# Altium schematic symbol library CONNECTORS.SchLib: 56 symbols
Pins are listed as number, name and electrical type; pins without a type are passive.

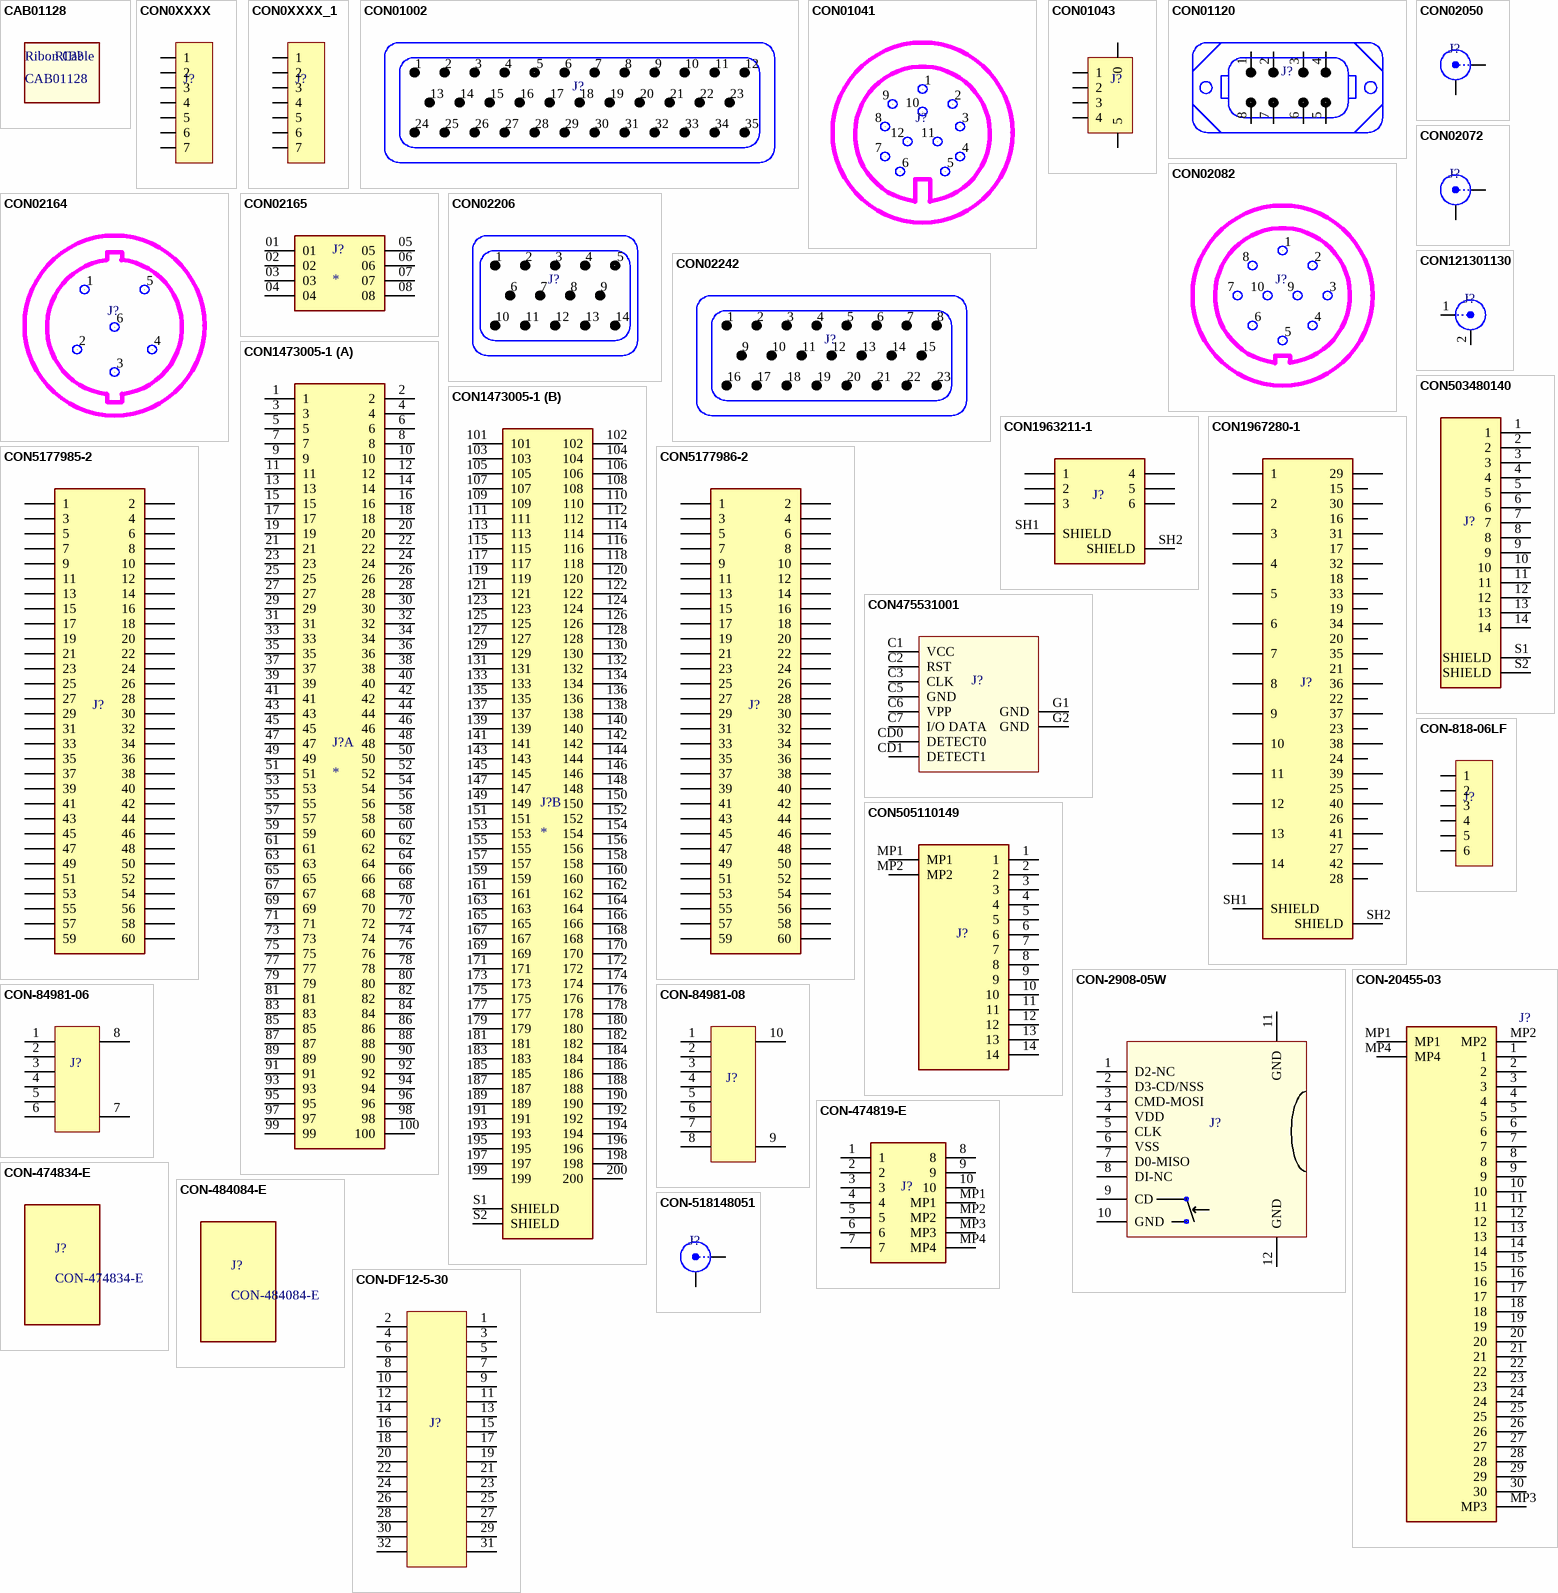
[diagram p0: symbols CAB01128 to CON-DF12-5-30]

## CAB01128
designator RIB?  (value not drawn)  (mechanical)
Flat Ribbon Cable Clear 10 Conductors 0.050" (1.27mm) Flat Cable 5.0' (1.52m); Manufacturer Part Number: 310J101-10; Manufacturer: Cicoil; Working Temperature: -65°C ~ 260°C; Temperature Coefficient: NC; Short Description: CBL RIBN 10COND 0.05 CLEAR 5'; Ratings: UL E324413, CE; Current: 5A; Voltage: ND; Value: 10; Mounting: TH; Power: NC; Type: NC; Frequency: NC; Alternate Part Number 2: *; Tolerance: NC; Revision Date: 03/08/21; Package Reference: NC
text: Ribon Cable

## CON0XXXX
designator J?  (value not drawn)
Alojamientos de cables y cabecera Surface Mount PCB Socket Strips, 0.100 pitch; Manufacturer Part Number: SSM-107-L-SV-BE-K; Manufacturer: SAMTEC; Working Temperature: NC; Short Description: 1 ROW, 7  Position, 0.100 Pitch SOCKET SMT; Value: 6; Temperature Coefficient: NC; Mounting: SMT; Power: NC; Ratings: *; Type: NC; Frequency: NC; Alternate Part Number 1: *; Alternate Part Number 2: *; Tolerance: NC; Current: *; Revision Date: 22/10/21; Package Reference: NC; Voltage: NC
footprint SSM-107-L-SV-BE-K (1 ROW, 7 POSITION, 0.100 PITCH, SOKET SMT)
pins: 1, 2, 3, 4, 5, 6, 7

## CON0XXXX_1
designator J?  (value not drawn)
Alojamientos de cables y cabecera Surface Mount PCB Header , 0.100 pitch; Manufacturer Part Number: TSM-107-03-S-SV; Manufacturer: SAMTEC; Working Temperature: NC; Short Description: 1 ROW, 7  Position, 0.100 Pitch HEADER SMT; Value: 6; Temperature Coefficient: NC; Mounting: SMT; Power: NC; Ratings: *; Type: NC; Frequency: NC; Alternate Part Number 1: *; Alternate Part Number 2: *; Tolerance: NC; Current: *; Revision Date: 22/10/21; Package Reference: NC; Voltage: NC
footprint TSM-107-03-S-SV (1 ROW, 7 POSITION, 0.100 PITCH, PLUG SMT)
pins: 1, 2, 3, 4, 5, 6, 7

## CON01002
designator J?
Connector Header Panel Mount, Through Hole 35 position 0.157" (4.00mm); Manufacturer Part Number: 1-776231-1; Manufacturer: TE Connectivity AMP Connectors; Working Temperature: -40°C ~ 125°C; Temperature Coefficient: NC; Short Description: CONN HEADER VERT 35POS 4MM; Ratings: ROHS3; Value: 35; Mounting: THT; Power: NC; Type: NC; Frequency: NC; Alternate Part Number 1: *; Alternate Part Number 2: *; Tolerance: NC; Current: NC; Revision Date: 20/08/21; Package Reference: NC; Voltage: NC
footprint 1-776231-X (Footprint not found)
pins: 1, 2, 3, 4, 5, 6, 7, 8, 9, 10, 11, 12, 13, 14, 15, 16, 17, 18, 19, 20, 21, 22, 23, 24, 25, 26, 27, 28, 29, 30, 31, 32, 33, 34, 35

## CON01041
designator J?
12 (Power) Position Circular Connector Receptacle, Male Pins Solder; Manufacturer Part Number: PX0413/12P/PC; Manufacturer: Bulgin; Working Temperature: -40°C ~ 80°C; Short Description: CONN RCPT 12POS W/PINS PCB MOUNT; Current: 1A; Temperature Coefficient: *; Mounting: THT; Power: *; Ratings: *; Type: THT; Frequency: *; Alternate Part Number 1: *; Alternate Part Number 2: *; Tolerance: *; Revision Date: 12/11/21; Package Reference: *; Voltage: *; Value: *
footprint PX0413/12P/PC (CONN RCPT 12POS W/PINS PCB MOUNT)
pins: 1, 2, 3, 4, 5, 6, 7, 8, 9, 10, 11, 12

## CON01043
designator J?
USB-A (USB TYPE-A) USB 2.0 Receptacle Connector 4 Position Panel Mount, Through Hole, Right Angle; Manufacturer Part Number: MUSB-A111-30; Manufacturer: Amphenol ICC (Commercial Products); Working Temperature: -40°C ~ 105°C; Short Description: CONN RCPT USB2.0 TYPEA 4P PCB RA; Current: 1.5A; Temperature Coefficient: *; Mounting: THT; Power: *; Ratings: *; Type: USB-A (USB TYPE-A); Frequency: *; Alternate Part Number 1: *; Alternate Part Number 2: *; Tolerance: *; Revision Date: *; Package Reference: *; Voltage: *; Value: *
footprint MUSB-A111-30
pins: 0, 1, 2, 3, 4, 5

## CON01120
designator J?
8 Positions Header Connector Panel Mount, Through Hole, Right Angle Nickel; Manufacturer Part Number: AT13-08PA-BM0; Manufacturer: Amphenol Sine Systems Corp; Working Temperature: -55°C ~ 125°C; Temperature Coefficient: NC; Short Description: CONN HEADER R/A 8POS; Current: 13A; Voltage: 250V; Value: 8; Mounting: Through Hole, Right Angle; Power: *; Ratings: *; Type: Receptacle; Frequency: *; Alternate Part Number 1: *; Alternate Part Number 2: *; Tolerance: NC; Revision Date: 05/09/22; Package Reference: *
footprint AT13-08PA-
footprint AT15-08PA-BM0
pins: 1, 2, 3, 4, 5, 6, 7, 8

## CON02050
designator J?
RP SMA Jack Male Vertical PCB Connector Total Length 22mm Thread Length 17mm; Manufacturer Part Number: S02-SJPT4-11BS00-3; Manufacturer: RF Supplier; Working Temperature: ND; Temperature Coefficient: NC; Frequency: 3 GHz; Value: NC; Mounting: THT; Short Description: ND; Power: ND; Ratings: ND; Type: ND; Alternate Part Number 1: *; Alternate Part Number 2: *; Tolerance: NC; Current: *; Revision Date: 25/11/21; Package Reference: SMA Jack; Voltage: NC
footprint S02-SJPT4-11BS00-3
pins: 1 X, 2 Y

## CON02072
designator J?
MCX Connector Receptacle, Male Pin 50Ohm Through Hole Solder; Manufacturer Part Number: 1061015-1; Manufacturer: TE Connectivity AMP Connectors; Working Temperature: -65°C ~ 165°C; Short Description: CONN MCX RCPT STR 50 OHM PCB; Ratings: REACH, ROHS3; Frequency: 4 GHz; Temperature Coefficient: *; Mounting: THT; Power: *; Type: *; Alternate Part Number 1: *; Alternate Part Number 2: *; Tolerance: *; Current: *; Revision Date: *; Package Reference: *; Voltage: *; Value: *
footprint 1061015-1
pins: 1 X, 2 Y

## CON02082
designator J?
10 (Power) Position Circular Connector Receptacle, Male Pins Solder; Manufacturer Part Number: PX0413/10P/PC; Manufacturer: Bulgin; Working Temperature: -40°C ~ 80°C; Short Description: CONN RCPT MALE 10POS GOLD SOLDER; Ratings: REACH, ROHS3; Current: 1A; Temperature Coefficient: *; Mounting: THT; Power: *; Type: THT; Frequency: *; Alternate Part Number 1: *; Alternate Part Number 2: *; Tolerance: *; Revision Date: 02/12/21; Package Reference: *; Voltage: *; Value: *
footprint PX0413/10P/PC (Footprint not found)
pins: 1, 2, 3, 4, 5, 6, 7, 8, 9, 10

## CON02164
designator J?  (value not drawn)
CONN PANEL LOCK 6PIN M; Manufacturer Part Number: CB-06PMMP-LC7001; Manufacturer: Amphenol LTW; Working Temperature: NA; Current: 10A; Temperature Coefficient: *; Mounting: THT; Short Description: CONN PANEL LOCK 6PIN M; Power: *; Ratings: *; Type: THT; Frequency: *; Alternate Part Number 1: *; Alternate Part Number 2: *; Tolerance: *; Revision Date: 12/11/21; Package Reference: *; Voltage: *; Value: *
footprint CB-06PMMP-LC7001 (CONN PANEL LOCK 6PIN M)
pins: 1, 2, 3, 4, 5, 6

## CON02165
designator J?
Conn Mini-Power Terminal Strip HDR 8 POS 2.54mm Solder SMD 8 Terminal; MP: IPL1-104-02-L-D-K; Price: None; Value: *; Availability: Unavailable; Package: None
footprint SAMTEC_IPL1-104-02-L-D-K (Mini-Power Terminal Strip HDR 8 POS 2.54mm Solder SMD)
pins: 01, 02, 03, 04, 05, 06, 07, 08

## CON02206
designator J?  (value not drawn)
Conectores automotrices 14P RT ANG HDR ASSY W/GASKE; Manufacturer Part Number: 776267-1; Manufacturer: TE Connectivity AMP Connectors; Working Temperature: -40°C ~ 125°C; Temperature Coefficient: NC; Ratings: ROHS3; Value: 14; Mounting: THT; Short Description: 14P RT ANG HDR ASSY W/GASKE; Power: NC; Type: NC; Frequency: NC; Alternate Part Number 1: *; Alternate Part Number 2: *; Tolerance: NC; Current: NC; Revision Date: 20/08/21; Package Reference: NC; Voltage: NC
footprint TE_776267-1_0
pins: 1, 2, 3, 4, 5, 6, 7, 8, 9, 10, 11, 12, 13, 14

## CON02242
designator J?  (value not drawn)
Connector Header Panel Mount, Through Hole, Right Angle 23 position 0.157" (4.00mm) Black (COD1); Manufacturer Part Number: 1-776087-1; Manufacturer: TE Connectivity Deutsch Connectors; Working Temperature: -40°C ~ 125°C; Temperature Coefficient: NC; Short Description: CONN HEADER R/A 23POS 4MM; Ratings: ROHS3, ELV; Current: 17 A; Voltage: 250VAC; Value: 23; Mounting: THT; Power: NC; Type: Black (COD 1); Frequency: NC; Alternate Part Number 1: *; Alternate Part Number 2: *; Tolerance: NC; Revision Date: 26/06/23; Package Reference: NC; ComponentLink1Description: Datasheet; ComponentLink1URL: https://www.te.com/usa-en/product-1-776087-1.datasheet.pdf; ComponentLink2Description: Product page; ComponentLink2URL: https://www.te.com/usa-en/product-1-776087-1.html; ComponentLink3Description: Drawing; ComponentLink3URL: https://www.te.com/commerce/DocumentDelivery/DDEController?Action=showdoc&DocId=Customer+Drawing%7F776087%7FF%7Fpdf%7FEnglish%7FENG_CD_776087_F.pdf%7F1-776087-1
footprint TE_1-776087-1
pins: 1, 2, 3, 4, 5, 6, 7, 8, 9, 10, 11, 12, 13, 14, 15, 16, 17, 18, 19, 20, 21, 22, 23

## CON1473005-1
designator J?
200 Position Dual Row Right Angle Double Data Rate SO DIMM Memory Card Socket; Manufacturer Part Number: 1473005-1; Manufacturer: TE Connectivity; Value: *; Datasheet: https://www.te.com/usa-en/product-1473005-1.html; Price: None; Package: None
footprint TE_1473005-1
footprint TE_1473005-1 + SOM Toradex iMX
part A pins: 1, 2, 3, 4, 5, 6, 7, 8, 9, 10, 11, 12, 13, 14, 15, 16, 17, 18, 19, 20, 21, 22, 23, 24, 25, 26, 27, 28, 29, 30, 31, 32, 33, 34, 35, 36, 37, 38, 39, 40, 41, 42, 43, 44, 45, 46, 47, 48, 49, 50, 51, 52, 53, 54, 55, 56, 57, 58, 59, 60, 61, 62, 63, 64, 65, 66, 67, 68, 69, 70, 71, 72, 73, 74, 75, 76, 77, 78, 79, 80, 81, 82, 83, 84, 85, 86, 87, 88, 89, 90, 91, 92, 93, 94, 95, 96, 97, 98, 99, 100
part B pins: 101, 102, 103, 104, 105, 106, 107, 108, 109, 110, 111, 112, 113, 114, 115, 116, 117, 118, 119, 120, 121, 122, 123, 124, 125, 126, 127, 128, 129, 130, 131, 132, 133, 134, 135, 136, 137, 138, 139, 140, 141, 142, 143, 144, 145, 146, 147, 148, 149, 150, 151, 152, 153, 154, 155, 156, 157, 158, 159, 160, 161, 162, 163, 164, 165, 166, 167, 168, 169, 170, 171, 172, 173, 174, 175, 176, 177, 178, 179, 180, 181, 182, 183, 184, 185, 186, 187, 188, 189, 190, 191, 192, 193, 194, 195, 196, 197, 198, 199, 200, S1 SHIELD, S2 SHIELD

## CON1963211-1
designator J?
Connector Header Through Hole, Right Angle 6 position 0.197" (5.00mm); Manufacturer Part Number: 1-963211-1; Manufacturer: TE Connectivity AMP Connectors; Short Description: CONN HEADER R/A 6POS 5MM; Ratings: RoHS 2011/65/EU; Value: 6; Working Temperature: *; Temperature Coefficient: *; Mounting: Through hole; Power: *; Type: *; Frequency: *; Alternate Part Number 1: *; Alternate Part Number 2: *; Tolerance: *; Current: *; Revision Date: 28/03/23; Package Reference: *; Voltage: *
footprint TE_1-963211-1 (Connector Header Through Hole, Right Angle 6 position 0.197" (5.00mm))
pins: 1, 2, 3, 4, 5, 6, SH1 SHIELD, SH2 SHIELD

## CON1967280-1
designator J?
Connector Header Through Hole, Right Angle 42 position 0.197" (5.00mm); Manufacturer Part Number: 1-967280-1; Manufacturer: TE Connectivity AMP Connectors; Short Description: CONN HEADER R/A 42POS 5MM; Ratings: RoHS 2011/65/EU; Value: 42; Working Temperature: *; Temperature Coefficient: *; Mounting: Through hole; Power: *; Type: *; Frequency: *; Alternate Part Number 1: *; Alternate Part Number 2: *; Tolerance: *; Current: *; Revision Date: 28/03/23; Package Reference: *; Voltage: *
footprint TE_1-967280-1
pins: 1, 2, 3, 4, 5, 6, 7, 8, 9, 10, 11, 12, 13, 14, 15, 16, 17, 18, 19, 20, 21, 22, 23, 24, 25, 26, 27, 28, 29, 30, 31, 32, 33, 34, 35, 36, 37, 38, 39, 40, 41, 42, SH1 SHIELD, SH2 SHIELD

## CON5177985-2
designator J?
60 Position Connector Receptacle, SMD, pitch 0.8mm; Manufacturer Part Number: 5177985-2; Manufacturer: TE Connectivity AMP Connectors; Short Description: Board to Board & Mezzanine Connectors 0.8MM-05H REC 2X030P; Ratings: RoHS; Value: 60; Working Temperature: *; Temperature Coefficient: *; Mounting: Surface Mount; Power: *; Type: *; Frequency: *; Alternate Part Number 1: *; Alternate Part Number 2: *; Tolerance: *; Current: *; Revision Date: 02/06/23; Package Reference: Tape & Reel (TR); Voltage: *
footprint TE_5177985-2
pins: 1, 2, 3, 4, 5, 6, 7, 8, 9, 10, 11, 12, 13, 14, 15, 16, 17, 18, 19, 20, 21, 22, 23, 24, 25, 26, 27, 28, 29, 30, 31, 32, 33, 34, 35, 36, 37, 38, 39, 40, 41, 42, 43, 44, 45, 46, 47, 48, 49, 50, 51, 52, 53, 54, 55, 56, 57, 58, 59, 60

## CON5177986-2
designator J?
60 Position Connector Plug, SMD, pitch 0.8mm; Manufacturer Part Number: 5177986-2; Manufacturer: TE Connectivity AMP Connectors; Short Description: Board to Board & Mezzanine Connectors 0.8MM-05H PLG 2X030P; Ratings: RoHS; Value: 60; Working Temperature: *; Temperature Coefficient: *; Mounting: Surface Mount; Power: *; Type: *; Frequency: *; Alternate Part Number 1: *; Alternate Part Number 2: *; Tolerance: *; Current: *; Revision Date: 02/06/23; Package Reference: Tape & Reel (TR); Voltage: *
footprint TE_5177986-2
pins: 1, 2, 3, 4, 5, 6, 7, 8, 9, 10, 11, 12, 13, 14, 15, 16, 17, 18, 19, 20, 21, 22, 23, 24, 25, 26, 27, 28, 29, 30, 31, 32, 33, 34, 35, 36, 37, 38, 39, 40, 41, 42, 43, 44, 45, 46, 47, 48, 49, 50, 51, 52, 53, 54, 55, 56, 57, 58, 59, 60

## CON121301130
designator J?
Fakra straight plug pcb 50 ohm; Manufacturer Part Number: 1213011300; Manufacturer: Synconn; Working Temperature: -40°C ~ 105°C; Temperature Coefficient: NC; Ratings: ROHS; Frequency: 6GHz; Value: NC; Mounting: SMT; Short Description: Fakra straight plug pcb 50 ohm; Power: NC; Type: Male; Alternate Part Number 2: *; Tolerance: NC; Current: NC; Revision Date: 13/04/23; Package Reference: NC; Voltage: NC
footprint 1213011300
pins: 1 PIN, 2 GND

## CON475531001
designator J?
8 (6 + 2) Position Card Connector SIM Card Surface Mount, Right Angle Gold; Manufacturer Part Number: 0475531001; Manufacturer: Molex; Working Temperature: NC; Short Description: CONN SIM CARD PUSH-PUSH R/A SMD; Ratings: REACH, ROHS3; Value: 8; Temperature Coefficient: NC; Mounting: SMT; Power: NC; Type: NC; Frequency: NC; Alternate Part Number 2: *; Tolerance: NC; Current: NC; Revision Date: 03/08/21; Package Reference: NC; Voltage: NC
footprint 0475531001
pins: C1 VCC, C2 RST, C3 CLK, C5 GND, C6 VPP, C7 I/O DATA, CD0 DETECT0, CD1 DETECT1, G1 GND, G2 GND

## CON503480140
designator J?
14 Position FFC, FPC Connector Contacts, Top and Bottom 0.020" (0.50mm) Surface Mount, Right Angle; Manufacturer Part Number: 5034801400; Manufacturer: Molex; Working Temperature: -40°C ~ 85°C; Short Description: CONN FFC FPC 14POS 0.50MM R/A; Current: 0.5A; Voltage: 50V; Value: 14; Temperature Coefficient: *; Mounting: SMD; Power: *; Ratings: *; Type: *; Frequency: *; Alternate Part Number 1: *; Alternate Part Number 2: *; Tolerance: *; Revision Date: 08/04/22; Package Reference: *; ComponentLink1Description: Datasheet; ComponentLink1URL: https://www.molex.com/pdm_docs/sd/5034801400_sd.pdf
footprint 5034801400
pins: 1, 2, 3, 4, 5, 6, 7, 8, 9, 10, 11, 12, 13, 14, S1 SHIELD (power), S2 SHIELD (power)

## CON505110149
designator J?
14 Position FFC, FPC Connector Contacts, Bottom 0.020" (0.50mm) Surface Mount, Right Angle; Manufacturer Part Number: 5051101492; Manufacturer: Molex; Working Temperature: -40°C ~ 105°C; Short Description: CONN FPC BOTTOM 14POS .5MM R/A; Current: 500mA; Voltage: 50V; Value: 14; Mounting: SMD; Power: *; Ratings: *; Type: *; Frequency: *; Alternate Part Number 1: *; Alternate Part Number 2: *; Tolerance: *; Revision Date: 20/09/21; Package Reference: *
footprint 5051101492 (Footprint not found)
pins: 1, 2, 3, 4, 5, 6, 7, 8, 9, 10, 11, 12, 13, 14, MP1, MP2

## CON-818-06LF
designator J?
Connector Header Through Hole 6 position 0.100" (2.54mm); Manufacturer Part Number: 77311-818-06LF; Manufacturer: Amphenol ICC (FCI); Working Temperature: NC; Short Description: CONN HEADER VERT 6POS 2.54MM; Ratings: REACH, ROHS; Current: 3A; Value: 6; Temperature Coefficient: NC; Mounting: THT; Power: NC; Type: NC; Frequency: NC; Alternate Part Number 1: *; Alternate Part Number 2: *; Tolerance: NC; Revision Date: 08/09/21; Package Reference: NC; Voltage: NC
footprint 77311-818-06LF
pins: 1, 2, 3, 4, 5, 6

## CON-2908-05W
designator J?
8 Position Card Connector Secure Digital - microSD™ Surface Mount, Right Angle Gold; Manufacturer Part Number: 2908-05WB-MG; Manufacturer: 3M; Working Temperature: NC; Short Description: CONN MICRO SD CARD PUSH-PUSH R/A; Ratings: ROHS; Value: 8; Temperature Coefficient: NC; Mounting: SMT; Power: NC; Type: NC; Frequency: NC; Alternate Part Number 2: *; Tolerance: NC; Current: NC; Revision Date: 03/08/21; Package Reference: NC; Voltage: NC
footprint 2908-05WB-MG
pins: 1 D2-NC, 2 D3-CD/NSS, 3 CMD-MOSI, 4 VDD, 5 CLK, 6 VSS, 7 D0-MISO, 8 DI-NC, 9 CD, 10 GND, 11 GND, 12 GND

## CON-20455-03
designator J?
CABLINE-VS Series Receptacle Assembly; Manufacturer Part Number: 20455-030E-76; Manufacturer: I-PEX; Current: 100mA; Voltage: 100V AC; Value: 30; Working Temperature: *; Temperature Coefficient: *; Mounting: SMD; Short Description: *; Power: *; Ratings: *; Type: *; Frequency: *; Alternate Part Number 1: *; Alternate Part Number 2: *; Tolerance: *; Revision Date: *; Package Reference: *
footprint 20455030E76
pins: 1, 2, 3, 4, 5, 6, 7, 8, 9, 10, 11, 12, 13, 14, 15, 16, 17, 18, 19, 20, 21, 22, 23, 24, 25, 26, 27, 28, 29, 30, MP1, MP2, MP3, MP4

## CON-84981-06
designator J?
6 Position FFC, FPC Connector Contacts, Top 0.039" (1.00mm) Surface Mount, Right Angle; Manufacturer Part Number: 84981-6; Manufacturer: TE Connectivity AMP Connectors; Working Temperature: -20°C ~ 85°C; Temperature Coefficient: NC; Short Description: CONN FFC FPC TOP 6POS 1.00MM R/A; Ratings: ROHS; Current: 1A; Voltage: 125V; Value: 6; Mounting: SMT; Power: NC; Type: NC; Frequency: NC; Alternate Part Number 2: *; Tolerance: NC; Revision Date: 03/08/21; Package Reference: NC
footprint 84981-6
pins: 1, 2, 3, 4, 5, 6, 7, 8

## CON-84981-08
designator J?
8 Position FFC, FPC Connector Contacts, Top 0.039" (1.00mm) Surface Mount, Right Angle; Manufacturer Part Number: 84981-8; Manufacturer: TE Connectivity AMP Connectors; Working Temperature: -20°C ~ 85°C; Temperature Coefficient: NC; Short Description: CONN FFC FPC TOP 8POS 1.00MM R/A; Ratings: ROHS; Current: 1A; Voltage: 125V; Value: 8; Mounting: SMT; Power: NC; Type: NC; Frequency: NC; Alternate Part Number 2: *; Tolerance: NC; Revision Date: 03/08/21; Package Reference: NC
footprint 84981-8
pins: 1, 2, 3, 4, 5, 6, 7, 8, 9, 10

## CON-474819-E
designator J?
Connector Header Surface Mount 10 position 0.050" (1.27mm); Manufacturer Part Number: 474819-E; Manufacturer: TE Connectivity Erni; Working Temperature: -55°C ~ 150°C; Temperature Coefficient: NC; Short Description: MIBR M 10POS VERT P SMT KS; Ratings: REACH, ROHS3; Current: 5.4A per Contact; Voltage: ND; Value: 10; Mounting: SMT; Power: NC; Type: NC; Frequency: NC; Alternate Part Number 2: *; Tolerance: NC; Revision Date: 03/08/21; Package Reference: NC
footprint CON-474819-E (MIBR M 10POS VERT P SMT KS)
pins: 1, 2, 3, 4, 5, 6, 7, 8, 9, 10, MP1, MP2, MP3, MP4

## CON-474834-E
designator J?  (mechanical)
10 Position Rectangular Receptacle Connector IDC 22 AWG; Manufacturer: TE Connectivity Erni; Working Temperature: -55°C ~ 150°C; Temperature Coefficient: NC; Short Description: MIBR F 10POS RA P IDC22 POZ KS; Ratings: REACH, ROHS3; Current: 5.4A per Contact; Voltage: ND; Value: 10; Manufacturer Part Number: 474834-E; Mounting: TH; Power: NC; Type: NC; Frequency: NC; Alternate Part Number 2: *; Tolerance: NC; Revision Date: 03/08/21; Package Reference: NC

## CON-484084-E
designator J?  (mechanical)
10 Position Rectangular Receptacle Connector IDC 22 AWG; Manufacturer: TE Connectivity Erni; Working Temperature: -55°C ~ 150°C; Temperature Coefficient: NC; Short Description: MIBR F 10POS VERT A IDC22 POZ KS; Ratings: REACH, ROHS3; Current: 5.4A per Contact; Voltage: ND; Value: 10; Manufacturer Part Number: 484084-E; Mounting: TH; Power: NC; Type: NC; Frequency: NC; Alternate Part Number 2: *; Tolerance: NC; Revision Date: 03/08/21; Package Reference: NC

## CON-518148051
designator J?
TNC Connector Jack, Female Socket 50Ohm Through Hole Solder; Manufacturer Part Number: 5-1814805-1; Manufacturer: TE Connectivity AMP Connectors; Working Temperature: -55°C ~ 85°C; Short Description: CONN TNC JACK STR 50 OHM PCB; Ratings: REACH, ROHS3; Frequency: 4 GHz; Temperature Coefficient: *; Mounting: THT; Power: *; Type: *; Alternate Part Number 1: *; Alternate Part Number 2: *; Tolerance: *; Current: *; Revision Date: *; Package Reference: *; Voltage: *; Value: *
footprint 5-1814805-1
pins: 1 X, 2 Y

## CON-DF12-5-30
designator J?
30 Position Connector Header, Outer Shroud Contacts Surface Mount Gold; Manufacturer Part Number: DF12NB(5.0)-30DP-0.5V(51); Manufacturer: Hirose Electric Co Ltd; Short Description: CONN HDR 30POS SMD GOLD; Ratings: RoHS; Value: 30; Working Temperature: *; Temperature Coefficient: *; Mounting: SMD; Power: *; Type: *; Frequency: *; Alternate Part Number 1: *; Alternate Part Number 2: *; Tolerance: *; Current: *; Revision Date: 4/4/23; Package Reference: *; Voltage: *
footprint DF12NB(5.0)-30
pins: 1, 2, 3, 4, 5, 6, 7, 8, 9, 10, 11, 12, 13, 14, 15, 16, 17, 18, 19, 20, 21, 22, 23, 24, 25, 26, 27, 28, 29, 30, 31, 32

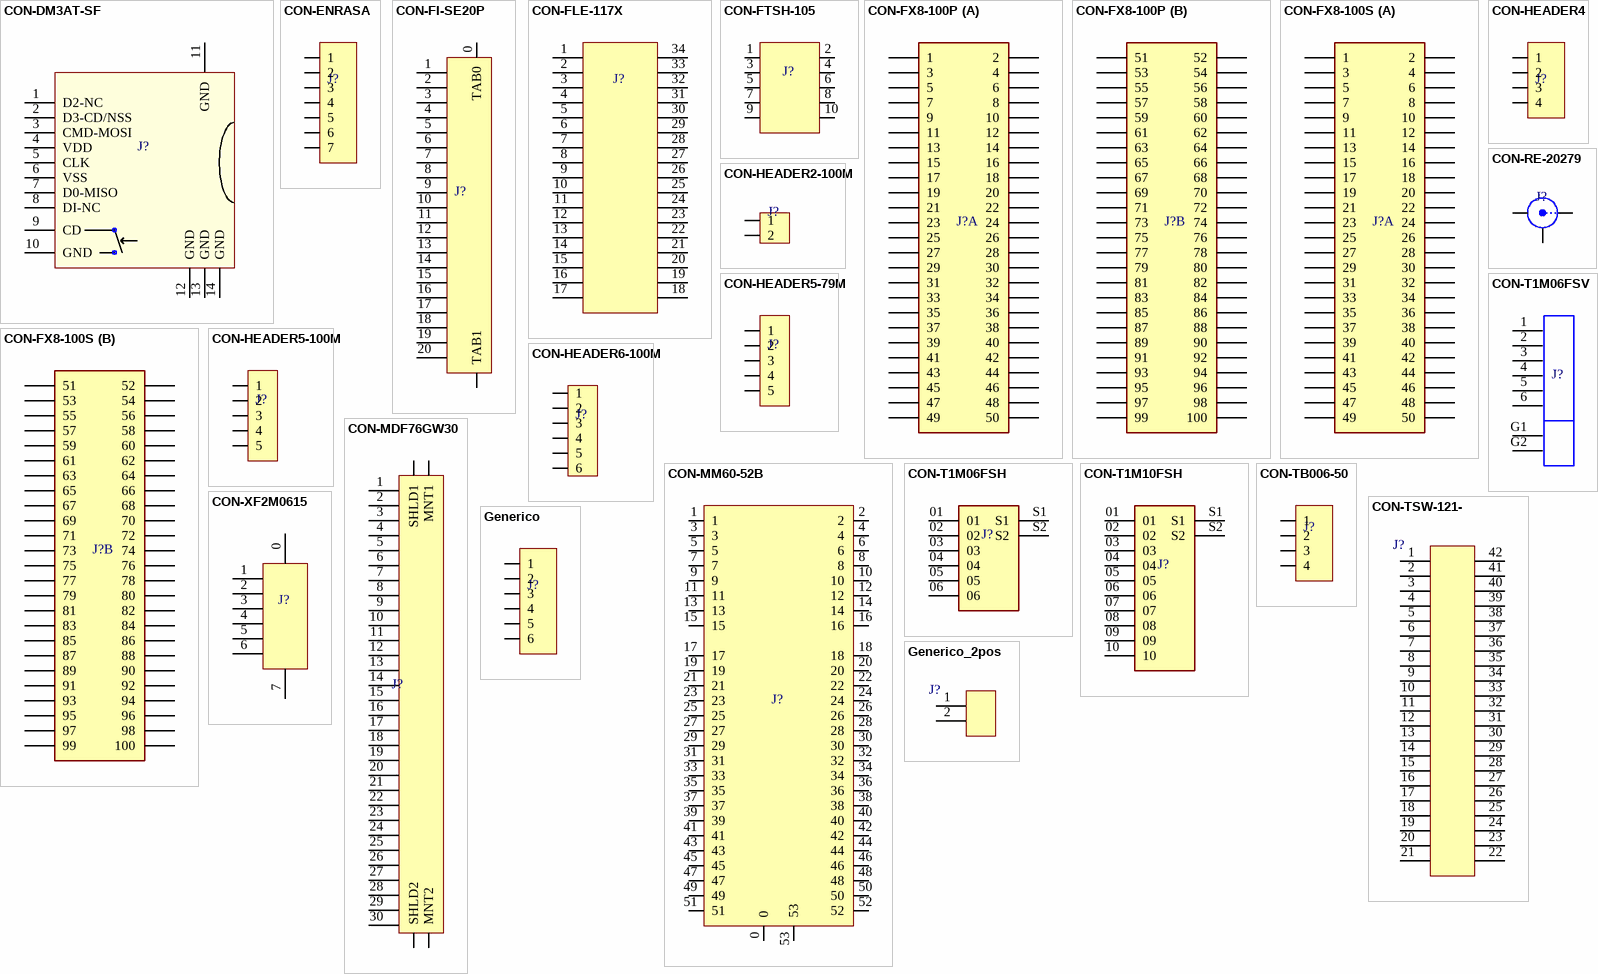
[diagram p1: symbols CON-DM3AT-SF to Generico_2pos]

## CON-DM3AT-SF
designator J?
10 (8 + 2) Position Card Connector Secure Digital - microSD™ Surface Mount, Right Angle Gold; Manufacturer Part Number: DM3AT-SF-PEJM5; Manufacturer: Hirose Electric Co Ltd; Working Temperature: NC; Short Description: CONN MICRO SD CARD PUSH-PUSH R/A; Ratings: ROHS; Value: 10; Temperature Coefficient: NC; Mounting: SMT; Power: NC; Type: NC; Frequency: NC; Alternate Part Number 2: *; Tolerance: NC; Current: NC; Revision Date: 03/08/21; Package Reference: NC; Voltage: NC; ComponentLink1Description: Datasheet; ComponentLink1URL: https://www.hirose.com/product/document?clcode=CL0609-0033-6-00&productname=DM3AT-SF-PEJ2M5&series=DM3&documenttype=Catalog&lang=en&documentid=D49662_en; ComponentLink2Description: Specs; ComponentLink2URL: https://www.hirose.com/product/download/?distributor=digikey&type=specSheet&lang=en&num=DM3AT-SF-PEJM5; ComponentLink3Description: Drawing; ComponentLink3URL: https://www.hirose.com/product/download/?distributor=digikey&type=2d&lang=en&num=DM3AT-SF-PEJM5
footprint DM3AT-SF-PEJM5
pins: 1 D2-NC, 2 D3-CD/NSS, 3 CMD-MOSI, 4 VDD, 5 CLK, 6 VSS, 7 D0-MISO, 8 DI-NC, 9 CD, 10 GND, 11 GND, 12 GND, 13 GND, 14 GND

## CON-ENRASA
designator J?
Connector 6 position for Enrasador; Working Temperature: NC; Value: 6; Manufacturer Part Number: *; Temperature Coefficient: NC; Mounting: THT; Short Description: *; Power: NC; Ratings: *; Type: NC; Frequency: NC; Alternate Part Number 1: *; Alternate Part Number 2: *; Manufacturer: *; Tolerance: NC; Current: *; Revision Date: 22/10/21; Package Reference: NC; Voltage: NC
footprint CON-ENRAS
pins: 1, 2, 3, 4, 5, 6, 7

## CON-FI-SE20P
designator J?
Connector Header Surface Mount, Right Angle 20 position 0.049" (1.25mm); Manufacturer Part Number: FI-SE20P-HFE; Working Temperature: -40°C ~ 80°C; Temperature Coefficient: NC; Short Description: CONN HEADER SMD R/A 20POS 1.25MM; Ratings: ROHS; Current: 1A; Voltage: 200V; Value: 20; Mounting: SMT; Power: NC; Type: NC; Frequency: NC; Alternate Part Number 2: *; Manufacturer: FI-SE20P-HFE; Tolerance: NC; Revision Date: 03/08/21; Package Reference: NC; ComponentLink1Description: Datasheet; ComponentLink1URL: https://media.digikey.com/pdf/Data%20Sheets/JAE%20PDFs/Board-to-CableConn_PG_V2.2.pdf; ComponentLink2Description: Dawings; ComponentLink2URL: https://www.jae.com/direct/topics/topics_file_download/topics_id=65161&ext_no=06&index=0&_lang=en&v=; ComponentLink3Description: Specs; ComponentLink3URL: https://www.jae.com/direct/topics/topics_file_download/topics_id=65161&ext_no=07&_lang=en&v=
footprint FI-SE20P-HFE
pins: 0 TAB0, 1, 2, 3, 4, 5, 6, 7, 8, 9, 10, 11, 12, 13, 14, 15, 16, 17, 18, 19, 20, 21 TAB1

## CON-FLE-117X
designator J?
34 Position Receptacle Connector 0.050" (1.27mm) Surface Mount Gold; Manufacturer Part Number: FLE-117-01-G-DV-A-K; Manufacturer: Samtec Inc.; Working Temperature: -55°C ~ 125°C; Temperature Coefficient: NC; Short Description: CONN RCPT 34POS 0.05 GOLD SMD; Ratings: ROHS3; Current: 2A; Voltage: ND; Value: 34; Mounting: SMT; Power: NC; Type: NC; Frequency: NC; Alternate Part Number 2: *; Tolerance: NC; Revision Date: 03/08/21; Package Reference: NC
footprint FLE-117-01-G-DV-A-K
pins: 1, 2, 3, 4, 5, 6, 7, 8, 9, 10, 11, 12, 13, 14, 15, 16, 17, 18, 19, 20, 21, 22, 23, 24, 25, 26, 27, 28, 29, 30, 31, 32, 33, 34

## CON-FTSH-105
designator J?
Connector Header Surface Mount 10 position 0.050" (1.27mm); Manufacturer Part Number: FTSH-105-01-L-DV-K-P; Manufacturer: Samtec Inc.; Working Temperature: -55°C ~ 125°C; Temperature Coefficient: NC; Short Description: CONN HEADER SMD 10POS 1.27MM; Ratings: REACH, ROHS3; Current: 3.4A; Voltage: ND; Value: 10; Mounting: SMT; Power: NC; Type: NC; Frequency: NC; Alternate Part Number 2: *; Tolerance: NC; Revision Date: 03/08/21; Package Reference: NC
footprint FTSH-105-01-L-DV-K-P
pins: 1, 2, 3, 4, 5, 6, 7, 8, 9, 10

## CON-FX8-100P
designator J?
100 Position Connector Header, Outer Shroud Contacts Surface Mount Gold; Manufacturer Part Number: FX8-100P-SV1; Manufacturer: Hirose Electric Co Ltd; Short Description: CONN HDR 100POS SMD GOLD; Ratings: RoHS; Value: 100; Working Temperature: *; Temperature Coefficient: *; Mounting: Surface Mount; Power: *; Type: *; Frequency: *; Alternate Part Number 1: *; Alternate Part Number 2: *; Tolerance: *; Current: *; Revision Date: 29/03/23; Package Reference: *; Voltage: *
footprint HRS_FX8-100P-SV1 (100 Position Connector Header, Outer Shroud Contacts Surface Mount Gold)
part A pins: 1, 2, 3, 4, 5, 6, 7, 8, 9, 10, 11, 12, 13, 14, 15, 16, 17, 18, 19, 20, 21, 22, 23, 24, 25, 26, 27, 28, 29, 30, 31, 32, 33, 34, 35, 36, 37, 38, 39, 40, 41, 42, 43, 44, 45, 46, 47, 48, 49, 50
part B pins: 51, 52, 53, 54, 55, 56, 57, 58, 59, 60, 61, 62, 63, 64, 65, 66, 67, 68, 69, 70, 71, 72, 73, 74, 75, 76, 77, 78, 79, 80, 81, 82, 83, 84, 85, 86, 87, 88, 89, 90, 91, 92, 93, 94, 95, 96, 97, 98, 99, 100

## CON-FX8-100S
designator J?
100 Position Connector Receptacle, Center Strip Contacts Surface Mount Gold; Manufacturer Part Number: FX8-100S-SV; Manufacturer: Hirose Electric Co Ltd; Short Description: CONN RCPT 100POS SMD GOLD; Ratings: RoHS; Value: 100; Working Temperature: *; Temperature Coefficient: *; Mounting: Surface Mount; Power: *; Type: *; Frequency: *; Alternate Part Number 1: *; Alternate Part Number 2: *; Tolerance: *; Current: *; Revision Date: 29/03/23; Package Reference: *; Voltage: *
footprint HRS_FX8-100S-SV (100 Position Connector Receptacle, Center Strip Contacts Surface Mount Gold)
part A pins: 1, 2, 3, 4, 5, 6, 7, 8, 9, 10, 11, 12, 13, 14, 15, 16, 17, 18, 19, 20, 21, 22, 23, 24, 25, 26, 27, 28, 29, 30, 31, 32, 33, 34, 35, 36, 37, 38, 39, 40, 41, 42, 43, 44, 45, 46, 47, 48, 49, 50
part B pins: 51, 52, 53, 54, 55, 56, 57, 58, 59, 60, 61, 62, 63, 64, 65, 66, 67, 68, 69, 70, 71, 72, 73, 74, 75, 76, 77, 78, 79, 80, 81, 82, 83, 84, 85, 86, 87, 88, 89, 90, 91, 92, 93, 94, 95, 96, 97, 98, 99, 100

## CON-HEADER2-100M
designator J?  (no BOM)
Connector Header Through Hole Vertical 2 Position 0.100" (2.54mm); Manufacturer Part Number: 61300211121; Manufacturer: Würth Elektronik; Short Description: CONN HEADER VERT 2POS 2.54MM; Working Temperature: *; Temperature Coefficient: *; Mounting: THT; Power: *; Ratings: *; Type: *; Frequency: *; Alternate Part Number 1: *; Alternate Part Number 2: *; Tolerance: *; Current: *; Revision Date: 29/06/23; Package Reference: *; Voltage: *; Value: *
footprint HEADER2-100
pins: 1, 2

## CON-HEADER4
designator J?
Header, 4-Pin; Short Description: Connector Header 4 pin; Value: 4; Manufacturer Part Number: *; Working Temperature: *; Temperature Coefficient: *; Mounting: THT; Power: *; Ratings: *; Type: *; Frequency: *; Alternate Part Number 1: *; Alternate Part Number 2: *; Manufacturer: *; Tolerance: *; Current: *; Revision Date: 13/10/21; Package Reference: *; Voltage: *
footprint HEADER4 (Footprint not found)
pins: 1, 2, 3, 4

## CON-HEADER5-79M
designator J?  (no BOM)
Header, 5-Pin (2mm / 79MIL); Short Description: Connector Header 5 pin 2mm; Manufacturer Part Number: *; Working Temperature: *; Temperature Coefficient: *; Mounting: THT; Power: *; Ratings: *; Type: *; Frequency: *; Alternate Part Number 1: *; Alternate Part Number 2: *; Manufacturer: *; Tolerance: *; Current: *; Revision Date: 16/11/21; Package Reference: *; Voltage: *; Value: *
pins: 1, 2, 3, 4, 5

## CON-HEADER5-100M
designator J?  (no BOM)
Header, 5-Pin (2.54mm / 100MIL); Short Description: Connector Header 5 pin 2.54mm; Manufacturer Part Number: *; Working Temperature: *; Temperature Coefficient: *; Mounting: THT; Power: *; Ratings: *; Type: *; Frequency: *; Alternate Part Number 1: *; Alternate Part Number 2: *; Manufacturer: *; Tolerance: *; Current: *; Revision Date: 16/11/21; Package Reference: *; Voltage: *; Value: *
pins: 1, 2, 3, 4, 5

## CON-HEADER6-100M
designator J?  (no BOM)
Header, 6-Pin (2.54mm / 100MIL); Short Description: Connector Header 5 pin 2.54mm; Manufacturer Part Number: *; Working Temperature: *; Temperature Coefficient: *; Mounting: THT; Power: *; Ratings: *; Type: *; Frequency: *; Alternate Part Number 1: *; Alternate Part Number 2: *; Manufacturer: *; Tolerance: *; Current: *; Revision Date: 16/11/21; Package Reference: *; Voltage: *; Value: *
pins: 1, 2, 3, 4, 5, 6

## CON-MDF76GW30
designator J?
30 Position Receptacle Connector 0.039" (1.00mm) Surface Mount, Right Angle Gold; Manufacturer Part Number: MDF76GW-30S-1H(55); Manufacturer: Hirose Electric Co Ltd; Working Temperature: -40°C ~ 85°C; Temperature Coefficient: NC; Short Description: CONN RCPT 30P 0.039 GOLD SMD R/A; Ratings: ROHS; Value: 30; Mounting: SMT; Power: NC; Type: NC; Frequency: NC; Alternate Part Number 1: NC; Alternate Part Number 2: NC; Tolerance: NC; Current: NC; Revision Date: 19/11/21; Package Reference: NC; Voltage: NC
footprint MDF76GW-30S-1H(55)
pins: 1, 2, 3, 4, 5, 6, 7, 8, 9, 10, 11, 12, 13, 14, 15, 16, 17, 18, 19, 20, 21, 22, 23, 24, 25, 26, 27, 28, 29, 30, 31 MNT1, 31 MNT2, 31 SHLD1, 31 SHLD2

## CON-MM60-52B
designator J?
52 Position Female Connector PCI Express Mini Card Gold 0.031" (0.80mm) -; Manufacturer Part Number: MM60-52B1-E1-R650; Manufacturer: JAE Electronics; Working Temperature: -40°C ~ 85°C; Temperature Coefficient: NC; Short Description: CONN PCI EXP MINI FEMALE 52POS; Ratings: ROHS; Value: 52; Mounting: SMT; Power: NC; Type: NC; Frequency: NC; Alternate Part Number 2: *; Tolerance: NC; Current: NC; Revision Date: 03/08/21; Package Reference: NC; Voltage: NC
footprint MM60-52B1-E1-R650
pins: 0, 1, 2, 3, 4, 5, 6, 7, 8, 9, 10, 11, 12, 13, 14, 15, 16, 17, 18, 19, 20, 21, 22, 23, 24, 25, 26, 27, 28, 29, 30, 31, 32, 33, 34, 35, 36, 37, 38, 39, 40, 41, 42, 43, 44, 45, 46, 47, 48, 49, 50, 51, 52, 53

## CON-RE-20279
designator J?
U.FL (UMCC), IPEX MHF1 Connector Receptacle, Male Pin 50Ohm Surface Mount Solder; Manufacturer Part Number: RECE.20279.001E.01; Manufacturer: Taoglas Limited; Working Temperature: -40°C ~ 90°C; Temperature Coefficient: NC; Short Description: CONN UMC RCPT STR 50 OHM SMD; Ratings: REACH, ROHS3; Frequency: 6GHz; Value: 1; Mounting: SMT; Power: NC; Type: Male; Alternate Part Number 2: *; Tolerance: NC; Current: NC; Revision Date: 03/08/21; Package Reference: NC; Voltage: NC
footprint RECE-20279-001E-01
pins: 1 GND, 2 PIN, 3 GND

## CON-T1M06FSH
designator J?
Connector Header Surface Mount, Right Angle 6 position 0.039" (1.00mm); Manufacturer Part Number: T1M-06-F-SH-L-K; Manufacturer: Samtec Inc.; Working Temperature: -55°C ~ 85°C; Temperature Coefficient: NC; Short Description: CONN HEADER SMD R/A 6POS 1MM; Ratings: REACH, ROHS3; Current: 3.3A; Voltage: 250VAC, 353VDC; Value: 6; Mounting: SMT; Power: NC; Type: NC; Frequency: NC; Alternate Part Number 2: *; Tolerance: NC; Revision Date: 02/02/22; Package Reference: NC; ComponentLink1Description: Series Datasheet; ComponentLink1URL: http://suddendocs.samtec.com/catalog_english/t1m-sx.pdf; ComponentLink2Description: Drawing; ComponentLink2URL: http://suddendocs.samtec.com/prints/t1m-xx-x-sh-l-x-mkt.pdf
footprint T1M-06-X-SH-L
pins: 01, 02, 03, 04, 05, 06, S1, S2

## CON-T1M06FSV
designator J?
Connector Header Surface Mount 6 position 0.039" (1.00mm); Manufacturer Part Number: T1M-06-F-SV-L; Manufacturer: Samtec Inc.; Working Temperature: -55°C ~ 85°C; Temperature Coefficient: NC; Short Description: CONN HEADER SMD 6POS 1MM; Ratings: REACH, ROHS3; Current: 3.3A; Voltage: 250VAC, 353VDC; Value: 6; Mounting: SMT; Power: NC; Type: NC; Frequency: NC; Alternate Part Number 2: *; Tolerance: NC; Revision Date: 03/08/21; Package Reference: NC
footprint T1M-06-F-SV-L
pins: 1, 2, 3, 4, 5, 6, G1, G2

## CON-T1M10FSH
designator J?
Connector Header Surface Mount, Right Angle 10 position 0.039" (1.00mm); Manufacturer Part Number: T1M-10-F-SH-L-K; Manufacturer: Samtec Inc.; Working Temperature: -55°C ~ 85°C; Short Description: CONN HEADER SMD R/A 10POS 1MM; Ratings: ROHS3, REACH; Current: 3.3A; Voltage: 250VAC, 353VDC; Value: 10; Temperature Coefficient: *; Mounting: SMT, R/A; Power: *; Type: Header Male Pin; Frequency: *; Alternate Part Number 1: *; Alternate Part Number 2: *; Tolerance: *; Revision Date: 02/02/2022; Package Reference: *; ComponentLink1Description: Series Datasheet; ComponentLink1URL: http://suddendocs.samtec.com/catalog_english/t1m-sx.pdf; ComponentLink2Description: Drawing; ComponentLink2URL: http://suddendocs.samtec.com/prints/t1m-xx-x-sh-l-x-mkt.pdf
footprint T1M-10-F-SH-L-K (CONN HEADER SMD R/A 10POS 1MM)
pins: 01, 02, 03, 04, 05, 06, 07, 08, 09, 10, S1, S2

## CON-TB006-50
designator J?
4 Position Wire to Board Terminal Block Horizontal with Board 0.200" (5.08mm) Through Hole; Manufacturer Part Number: TB006-508-04BE; Manufacturer: CUI Devices; Working Temperature: -40°C ~ 105°C; Short Description: TERMINAL BLOCK, SCREW TYPE, 5.08; Current: 12 A; Voltage: 300 V; Temperature Coefficient: *; Mounting: Through Hole; Power: *; Ratings: *; Type: *; Frequency: *; Alternate Part Number 1: *; Alternate Part Number 2: *; Tolerance: *; Revision Date: 06/10/2021; Package Reference: *; Value: *
footprint TB006-508-04BE (4 POS, TERMINAL BLOCK, SCREW TYPE, 5.08)
pins: 1, 2, 3, 4

## CON-TSW-121-
designator J?
Connector Header Through Hole 42 position 0.100" (2.54mm) 2 rows; Manufacturer Part Number: TSW-121-07-T-D; Manufacturer: Samtec Inc.; Value: 42; Working Temperature: *; Temperature Coefficient: *; Mounting: Through Hole; Short Description: *; Power: *; Ratings: *; Type: *; Frequency: *; Alternate Part Number 1: *; Alternate Part Number 2: *; Tolerance: *; Current: *; Revision Date: *; Package Reference: *; Voltage: *
footprint PinHeader2x21_2.54
pins: 1, 2, 3, 4, 5, 6, 7, 8, 9, 10, 11, 12, 13, 14, 15, 16, 17, 18, 19, 20, 21, 22, 23, 24, 25, 26, 27, 28, 29, 30, 31, 32, 33, 34, 35, 36, 37, 38, 39, 40, 41, 42

## CON-XF2M0615
designator J?
6 Position FPC Connector Contacts, Top and Bottom 0.020" (0.50mm) Surface Mount, Right Angle; Manufacturer Part Number: XF2M-0615-1A; Manufacturer: Omron Electronics Inc-EMC Div; Working Temperature: -30°C ~ 85°C; Temperature Coefficient: NC; Short Description: CONN FPC 6POS 0.50MM R/A; Ratings: ROHS; Current: 0.5A; Voltage: 50V; Value: 6; Mounting: SMT; Power: NC; Type: NC; Frequency: NC; Alternate Part Number 2: *; Tolerance: NC; Revision Date: 03/08/21; Package Reference: NC
footprint XF2M-0615-1A
pins: 0, 1, 2, 3, 4, 5, 6, 7

## Generico
designator J?
Manufacturer Part Number: *; Working Temperature: *; Temperature Coefficient: *; Mounting: *; Short Description: *; Power: *; Ratings: *; Type: *; Frequency: *; Alternate Part Number 1: *; Alternate Part Number 2: *; Manufacturer: *; Tolerance: *; Current: *; Revision Date: *; Package Reference: *; Voltage: *; Value: *
pins: 1, 2, 3, 4, 5, 6

## Generico_2pos
designator J?
Value: 2; Manufacturer Part Number: *; Working Temperature: *; Temperature Coefficient: *; Mounting: *; Short Description: *; Power: *; Ratings: *; Type: *; Frequency: *; Alternate Part Number 1: *; Alternate Part Number 2: *; Manufacturer: *; Tolerance: *; Current: *; Revision Date: *; Package Reference: *; Voltage: *
footprint HEADER2-100
pins: 1, 2